# Altium schematic symbol library SPECTRE_ESP32-S3.SchLib: 29 symbols
Pins are listed as number, name and electrical type; pins without a type are passive.

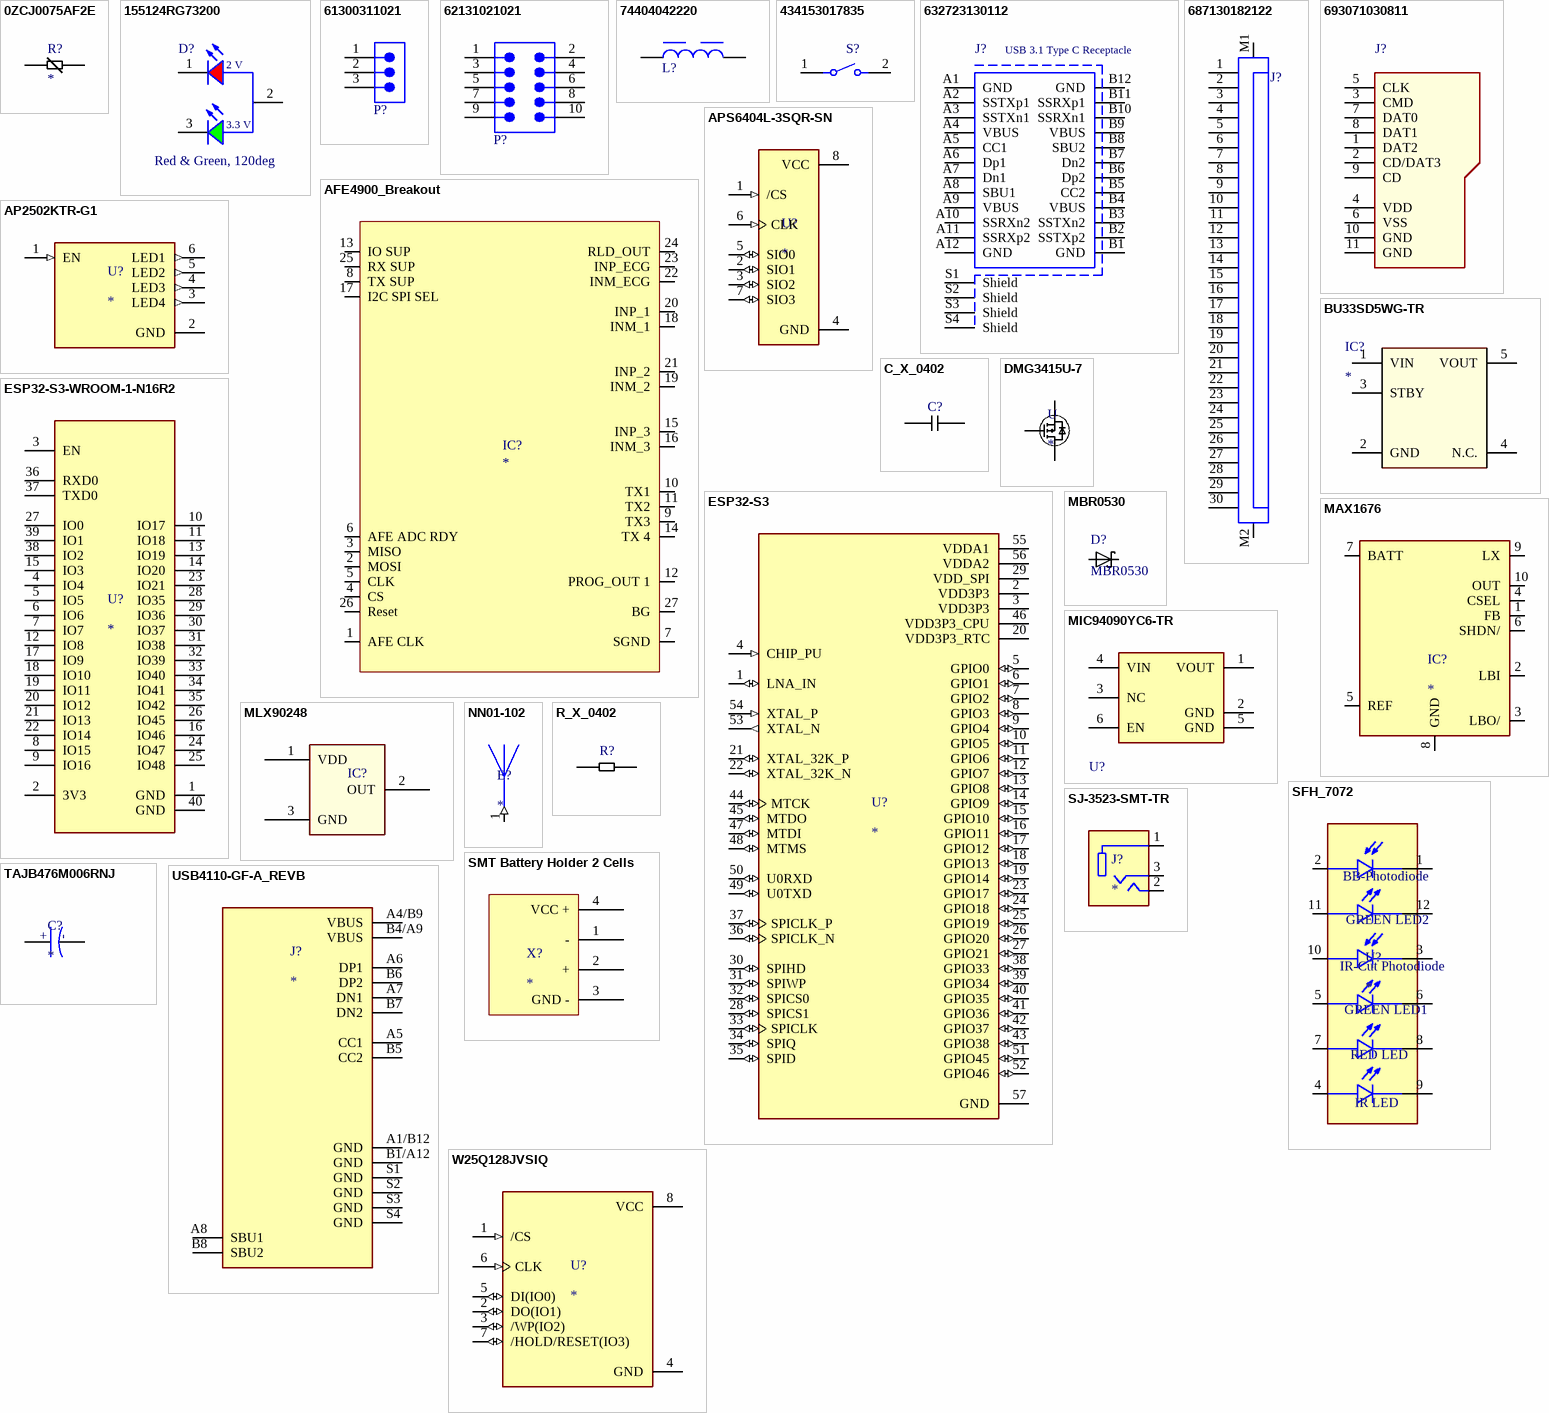
[diagram p0: symbols 0ZCJ0075AF2E to W25Q128JVSIQ]

## 0ZCJ0075AF2E
designator R?
1206 SMT PPTC | 0.75 Ih | 16V; MP: 0ZCJ0075AF2E; MF: Bel Fuse; Package: 1206 Bel Fuse; Value: *; Digi-Key_Part_Number: 507-1805-1-ND; SnapEDA_Link: https://www.snapeda.com/parts/0ZCJ0075AF2E/Bel%20Fuse%20Inc./view-part/1307706/?ref=snap
footprint RESC3216X125N
pins: 1 (power), 2 (power)

## 155124RG73200
designator D?, comment Red & Green, 120deg
WL-SBSW SMT Bi-color Side View Waterclear, size 1204, Red & Green, 120deg; Part Number: 155124RG73200; Luminous Intensity: 160mcd@Green, 60mcd@Red; Dominant Wavelength: 525nm@Green, 624nm@Red; Forward Voltage: 3.3V@Green, 2V@Red; Peak Wavelength: 520nm@Green, 632nm@Red; Chip Technology: AlInGaP + InGaN; ComponentLink1Description: Manufacturer; ComponentLink1URL: http://www.we-online.de; ComponentLink2Description: Datasheet; ComponentLink2URL: https://katalog.we-online.de/led/datasheet/155124RG73200.pdf; Emitting Color: Red & Green; Operating Temperature: -40 to +85degC; Mounting Technology: SMT; Packaging: Tape and Reel; Published Date: October 2019; Publisher: Wurth Elektronik; Size: 1204; Viewing Angle: 120deg
footprint WL-SBSW_1204 (SMD Bi-color Side view Waterclear, body 3.2x1mm)
pins: 1 K, 2 A, 3 K
text: 2 V; 3.3 V

## 61300311021
designator P?  (value not drawn)
WR-PHD Pin Header, THT, Angled, pitch 2.54mm, 1 Row, 3P; Manufacturer: Wurth Elektronik; Contact Resistance: 20mΩ; Rated Current: 3A; Working Voltage: 250V; Withstanding Voltage: 500V; ComponentLink1Description: Website Link; ComponentLink1URL: https://www.we-online.com/redexpert/article/61300311021?ad; ComponentLink2Description: Datasheet Link; ComponentLink2URL: https://www.we-online.com/redexpert/spec/61300311021?ad; Manufacturer Part Number: 61300311021; Category: Board-to-Board Connectors; Match Code: WR-PHD; Mount: Through Hole; Operating Temperature Max: 105°C; Operating Temperature Min: -40°C; Packaging: Bag; Gender: Pin Header; Number of Pins: 3; Number of Rows: 1; Orientation: Angled; Pitch: 2.54mm
footprint 61300311021 (Pin Header, pitch 2.54 mm, THT, Angled, single row, 3p)
pins: 1, 2, 3

## 62131021021
designator P?  (value not drawn)
WR-PHD Pin Header, SMT, Vertical, pitch 1.27mm, 2 Row, 10P; Manufacturer: Wurth Elektronik; Contact Resistance: 20mΩ; Rated Current: 1A; Working Voltage: 100V; Withstanding Voltage: 500V; ComponentLink1Description: Website Link; ComponentLink1URL: https://www.we-online.com/redexpert/article/62131021021?ad; ComponentLink2Description: Datasheet Link; ComponentLink2URL: https://www.we-online.com/redexpert/spec/62131021021?ad; Manufacturer Part Number: 62131021021; Category: Board-to-Board Connectors; Match Code: WR-PHD; Mount: Surface Mount; Operating Temperature Max: 105°C; Operating Temperature Min: -40°C; Packaging: Tape and Reel; Gender: Pin Header; Number of Pins: 10; Number of Rows: 2; Orientation: Vertical; Pitch: 1.27mm
footprint 62131021021 (Pin Header, pitch 1.27 mm, SMD, Vertical, dual row, 10p)
pins: 1, 2, 3, 4, 5, 6, 7, 8, 9, 10

## 74404042220
designator L?, comment 22µH, 0.7A  (value not drawn)
WE-LQS SMT Power Inductor, size 4018, 22µH, 0.7A, 0.29Ω; Manufacturer Part Number: 74404042220; Manufacturer: Wurth Elektronik; Case/Size Code: 4018; Saturation Current: 1.1A; Self Resonant Frequency: 23MHz; ComponentLink1Description: Website Link; ComponentLink1URL: https://www.we-online.com/redexpert/article/74404042220?ad; ComponentLink2Description: Datasheet Link; ComponentLink2URL: https://www.we-online.com/redexpert/spec/74404042220?ad; Category: Shielded Power Inductors; Match Code: WE-LQS; Mount: Surface Mount; Operating Temperature Max: 125°C; Operating Temperature Min: -40°C; Packaging: Tape and Reel; Length: 4mm; Width: 4mm; Height: 1.8mm; DC Resistance: 0.29Ω; Inductance: 22µH; Rated Current: 0.7A
footprint WE-LQS_4018 (SMD Power Inductor, 2-Leads, body 4x4mm)
pins: 1, 2

## 434153017835
designator S?
WS-TASV J-Bend SMT Tact Switch, 3.5x2.9x1.7mm, 350gf; Manufacturer Part Number: 434153017835; Manufacturer: Wurth Elektronik; Rated Voltage: 12VDC; Rated Current: 50mA; Washable: No; ComponentLink1Description: Manufacturer; ComponentLink1URL: http://www.we-online.de; ComponentLink2Description: Datasheet; ComponentLink2URL: https://www.we-online.com/catalog/datasheet/434153017835.pdf; Operating Temperature: -40 to +85degC; Published Date: November 2020; Contact Material: Stainless Steel; Size: 3.5x2.9x1.7mm; Mounting Technology: SMT; Contact Plating: Silver; Operation Force: 350gf; Packaging: Tape and Reel; Terminal Material: Copper Alloy; Terminal Plating: Silver
footprint 434153017835 (Tact Switch, SMD, body 3.5x2.9mm)
pins: 1, 2

## 632723130112
designator J?, comment USB 3.1 Type C Receptacle
USB 3.1 Type C, Receptacle, Horizontal, THR; Part Number: 632723130112; Rated Current: 5A; Pin Number: 24; Interface Type: Type C; Working Voltage: 20VAC; ComponentLink1Description: Manufacturer; ComponentLink1URL: http://www.we-online.de; ComponentLink2Description: Datasheet; ComponentLink2URL: https://katalog.we-online.com/em/datasheet/632723130112.pdf; Published Date: September 2019; Publisher: Wurth Elektronik; Gender: Receptacle; Type: Horizontal; Packaging: Tape and Reel; Operating Temperature: -40 to +85degC; Mounting Technology: THR; Application: USB 3.1
footprint 632723130112
pins: A1 GND, A2 SSTXp1, A3 SSTXn1, A4 VBUS, A5 CC1, A6 Dp1, A7 Dn1, A8 SBU1, A9 VBUS, A10 SSRXn2, A11 SSRXp2, A12 GND, B1 GND, B2 SSTXp2, B3 SSTXn2, B4 VBUS, B5 CC2, B6 Dp2, B7 Dn2, B8 SBU2, B9 VBUS, B10 SSRXn1, B11 SSRXp1, B12 GND, S1 Shield, S2 Shield, S3 Shield, S4 Shield

## 687130182122
designator J?  (value not drawn)
WR-FPC SMT ZIF Horizontal Dual Contact, pitch 0.5mm, Horizontal, 30pins; Manufacturer: Wurth Elektronik; Contact Resistance: 30mΩ; Rated Current: 0.5A; Working Voltage: 50VAC; ComponentLink1Description: Website Link; ComponentLink1URL: https://www.we-online.com/redexpert/article/687130182122?ad; ComponentLink2Description: Datasheet Link; ComponentLink2URL: https://www.we-online.com/redexpert/spec/687130182122?ad; Manufacturer Part Number: 687130182122; Category: FPC Connectors; Match Code: WR-FPC; Mount: Surface Mount; Operating Temperature Max: 85°C; Operating Temperature Min: -55°C; Packaging: Tape and Reel; Length: 17mm; Width: 3.7mm; Height: 0.96mm; Number of Pins: 30; Orientation: Horizontal; Pitch: 0.5mm
footprint 687130182122 (ZIF Connectors, Horizontal, Dual Contact Back Locking, pitch 0.5mm, 30p)
pins: 1, 2, 3, 4, 5, 6, 7, 8, 9, 10, 11, 12, 13, 14, 15, 16, 17, 18, 19, 20, 21, 22, 23, 24, 25, 26, 27, 28, 29, 30, M1, M2

## 693071030811
designator J?
WR-CRD Micro SD Card Connector Push & Push; Part Number: 693071030811; Contact Resistance: 100mOhm; Gender: Socket; Pin Number: 8; Working Voltage: 30VAC; Withstanding Voltage: 500VAC; Rated Current: 0.5A; ComponentLink1Description: Manufacturer; ComponentLink1URL: http://www.we-online.de; ComponentLink2Description: Datasheet; ComponentLink2URL: https://katalog.we-online.com/em/datasheet/693071030811.pdf; Packaging: Tape and Reel; Published Date: November 2019; Publisher: Wurth Elektronik; Mounting Technology: SMT; Operating Temperature: -25 to +85degC; Type: Push & Push
footprint 693071030811 (Micro SD Card Connector)
pins: 1 DAT2, 2 CD/DAT3, 3 CMD, 4 VDD, 5 CLK, 6 VSS, 7 DAT0, 8 DAT1, 9 CD, 10 GND, 11 GND

## AFE4900_Breakout
designator IC?
footprint AFE4900_Breakout; pin to pad 1>F1 2>F2 3>E2 4>E3 5>F3 6>F4 7>D5 8>F5 9>E4 10>D4 11>E5 12>D3 13>C4 14>C5 15>B5 16>A5 17>A4 18>A3 19>B3 20>A2 21>B2 22>A1 23>B1 24>C2 25>C1 26>E1 27>D2
pins: 1 AFE CLK, 2 MOSI, 3 MISO, 4 CS, 5 CLK, 6 AFE ADC RDY, 7 SGND, 8 TX SUP, 9 TX3, 10 TX1, 11 TX2, 12 PROG_OUT 1, 13 IO SUP, 14 TX 4, 15 INP_3, 16 INM_3, 17 I2C SPI SEL, 18 INM_1, 19 INM_2, 20 INP_1, 21 INP_2, 22 INM_ECG, 23 INP_ECG, 24 RLD_OUT, 25 RX SUP, 26 Reset, 27 BG

## AP2502KTR-G1
designator U?
LED Driver IC 4 Output Linear - PWM Dimming 20mA SOT-23-6; MP: AP2502KTR-G1; MF: Diodes Inc.; Value: *; Availability: In Stock; Package: SOT-23-6 Diodes Inc.; Purchase-URL: https://pricing.snapeda.com/search/part/AP2502KTR-G1/?ref=eda; Check_prices: https://www.snapeda.com/parts/AP2502KTR-G1/Diodes+Inc./view-part/?ref=eda; Price: None; SnapEDA_Link: https://www.snapeda.com/parts/AP2502KTR-G1/Diodes+Inc./view-part/?ref=snap
footprint SOT95P280X145-6N
pins: 1 EN (in), 2 GND (power), 3 LED4 (out), 4 LED3 (out), 5 LED2 (out), 6 LED1 (out)

## APS6404L-3SQR-SN
designator U?
FLASH - NOR Memory IC 128Mb (16M x 8) SPI - Quad I/O, QPI, DTR 133 MHz 8-SOIC; MF: Winbond Electronics; MP: W25Q128JVSIQ; Price: None; Purchase-URL: https://pricing.snapeda.com/search/part/W25Q128JVSIQ/?ref=eda; Check_prices: https://www.snapeda.com/parts/W25Q128JVSIQ/Winbond+Electronics/view-part/?ref=eda; Value: *; Package: SOIC-8 Winbond; SnapEDA_Link: https://www.snapeda.com/parts/W25Q128JVSIQ/Winbond+Electronics/view-part/?ref=snap; Availability: In Stock
footprint SOIC127P790X216-8N
pins: 1 /CS (in), 2 SIO1 (io), 3 SIO2 (io), 4 GND (power), 5 SIO0 (io), 6 CLK (in), 7 SIO3 (io), 8 VCC (power)

## BU33SD5WG-TR
designator IC?
Linear Voltage Regulator IC Positive Fixed 1 Output 500mA 5-SSOP; MF: Rohm; MP: BU33SD5WG-TR; Check_prices: https://www.snapeda.com/parts/BU33SD5WG-TR/Rohm/view-part/?ref=eda; Value: *; SnapEDA_Link: https://www.snapeda.com/parts/BU33SD5WG-TR/Rohm/view-part/?ref=snap; Price: None; Availability: In Stock; Package: SSOP-5 Rohm; Purchase-URL: https://pricing.snapeda.com/search/part/BU33SD5WG-TR/?ref=eda
footprint SOT95P280X125-5N
pins: 1 VIN, 2 GND, 3 STBY, 4 N.C., 5 VOUT

## C_X_0402
designator C?
footprint C_0402
pins: 1 (power), 2 (power)

## DMG3415U-7
designator U
P-Channel 20V 4A _Ta_ 900mW _Ta_ Surface Mount SOT-23-3; MF: Diodes Inc.; MP: DMG3415U-7; Package: SOT-23-3 Diodes Inc.; DigiKey-Purchase-URL: https://snapeda.com/shop?store=DigiKey&id=82858; Availability: Unavailable; Value: *; Price: None; SnapEDA_Link: https://www.snapeda.com/parts/DMG3415U-7/Diodes%20Inc./view-part/82858/?ref=snap
footprint SOT95P240X105-3N
pins: 1 G (power), 2 S (power), 3 D (power)

## ESP32-S3
designator U?
IC RF TxRx + MCU Bluetooth, WiFi 802.11b/g/n, Bluetooth v5.0 2.412GHz ~ 2.484GHz 56-VFQFN Exposed Pad; MF: Espressif Systems; MP: ESP32-S3; Package: None; Check_prices: https://www.snapeda.com/parts/ESP32-S3/Espressif+Systems/view-part/?ref=eda; Availability: In Stock; Value: *; Purchase-URL: https://pricing.snapeda.com/search/part/ESP32-S3/?ref=eda; Price: None; SnapEDA_Link: https://www.snapeda.com/parts/ESP32-S3/Espressif+Systems/view-part/?ref=snap
footprint IC_ESP32-S3
pins: 1 LNA_IN (io), 2 VDD3P3 (power), 3 VDD3P3 (power), 4 CHIP_PU (in), 5 GPIO0 (io), 6 GPIO1 (io), 7 GPIO2 (io), 8 GPIO3 (io), 9 GPIO4 (io), 10 GPIO5 (io), 11 GPIO6 (io), 12 GPIO7 (io), 13 GPIO8 (io), 14 GPIO9 (io), 15 GPIO10 (io), 16 GPIO11 (io), 17 GPIO12 (io), 18 GPIO13 (io), 19 GPIO14 (io), 20 VDD3P3_RTC (power), 21 XTAL_32K_P (io), 22 XTAL_32K_N (io), 23 GPIO17 (io), 24 GPIO18 (io), 25 GPIO19 (io), 26 GPIO20 (io), 27 GPIO21 (io), 28 SPICS1 (io), 29 VDD_SPI (power), 30 SPIHD (io), 31 SPIWP (io), 32 SPICS0 (io), 33 SPICLK (io), 34 SPIQ (io), 35 SPID (io), 36 SPICLK_N (io), 37 SPICLK_P (io), 38 GPIO33 (io), 39 GPIO34 (io), 40 GPIO35 (io), 41 GPIO36 (io), 42 GPIO37 (io), 43 GPIO38 (io), 44 MTCK (io), 45 MTDO (io), 46 VDD3P3_CPU (power), 47 MTDI (io), 48 MTMS (io), 49 U0TXD (io), 50 U0RXD (io), 51 GPIO45 (io), 52 GPIO46 (io), 53 XTAL_N (out), 54 XTAL_P (in), 55 VDDA1 (power), 56 VDDA2 (power), 57 GND (power)

## ESP32-S3-WROOM-1-N16R2
designator U?
Bluetooth, WiFi 802.11b/g/n, Bluetooth v5.0 Transceiver Module 2.4GHz PCB Trace Surface Mount; MP: ESP32-S3-WROOM-1-N16R2; MF: Espressif Systems; Package: None; Availability: In Stock; SnapEDA_Link: https://www.snapeda.com/parts/ESP32-S3-WROOM-1-N16R2/Espressif+Systems/view-part/?ref=snap; Value: *; Purchase-URL: https://pricing.snapeda.com/search/part/ESP32-S3-WROOM-1-N16R2/?ref=eda; Price: None; Check_prices: https://www.snapeda.com/parts/ESP32-S3-WROOM-1-N16R2/Espressif+Systems/view-part/?ref=eda
footprint XCVR_ESP32-S3-WROOM-1-N16R2
pins: 1 GND (power), 2 3V3 (power), 3 EN, 4 IO4, 5 IO5, 6 IO6, 7 IO7, 8 IO15, 9 IO16, 10 IO17, 11 IO18, 12 IO8, 13 IO19, 14 IO20, 15 IO3, 16 IO46, 17 IO9, 18 IO10, 19 IO11, 20 IO12, 21 IO13, 22 IO14, 23 IO21, 24 IO47, 25 IO48, 26 IO45, 27 IO0, 28 IO35, 29 IO36, 30 IO37, 31 IO38, 32 IO39, 33 IO40, 34 IO41, 35 IO42, 36 RXD0, 37 TXD0, 38 IO2, 39 IO1, 40 GND (power)

## MAX1676
designator IC?
Boost Switching Regulator IC Positive Adjustable (Programmable) 2V (3.3V, 5V) 1 Output 360mA (Switch), 750mA (Switch) 10-TFSOP, 10-MSOP (0.118, 3.00mm Width); MP: MAX1676; MF: Maxim Integrated; Value: *; Availability: Unavailable; Package: None; SnapEDA_Link: https://www.snapeda.com/parts/MAX1676/Maxim%20Integrated/view-part/574462/?ref=snap; Price: None; Check_prices: https://www.snapeda.com/parts/MAX1676/Maxim%20Integrated/view-part/574462/?ref=eda
footprint UMAX10
pins: 1 FB, 2 LBI, 3 LBO/, 4 CSEL, 5 REF, 6 SHDN/, 7 BATT, 8 GND (power), 9 LX, 10 OUT

## MBR0530
designator D?
SnapEDA_Link: https://www.snapeda.com/parts/MBR0530/ON%20Semiconductor/view-part/2580921/?ref=snap; Value: *
footprint MBR0530
pins: A, C

## MIC94090YC6-TR
designator U?  (value not drawn)
footprint Microchip_SC70-6LD-PL-1_IPC_C
pins: 1 VOUT (power), 2 GND (power), 3 NC, 4 VIN (power), 5 GND (power), 6 EN

## MLX90248
designator IC?
footprint SOT95P240X105-3N
pins: 1 VDD, 2 OUT, 3 GND

## NN01-102
designator E?
2.45GHz Bluetooth, WLAN, Zigbeeâ„¢ Chip RF Antenna 2.4GHz ~ 2.5GHz 1.7dBi Solder Surface Mount; MP: NN01-102; MF: Ignion; Price: None; Availability: In Stock; Check_prices: https://www.snapeda.com/parts/NN01-102/Ignion/view-part/5139104/?ref=eda; Value: *; Package: None; SnapEDA_Link: https://www.snapeda.com/parts/NN01-102/Ignion/view-part/5139104/?ref=snap
footprint XCVR_NN01-102
pins: 1 (in)

## R_X_0402
designator R?
footprint R_0402
pins: 1 (power), 2 (power)

## SFH_7072
designator U?
Reflective Optical Sensor 6-SMD, No Lead; MF: OSRAM Opto; Price: None; Availability: Unavailable; Value: *; MP: SFH 7072; SnapEDA_Link: https://www.snapeda.com/parts/SFH%207072/OSRAM%20Opto%20Semiconductors%20Inc./view-part/2464223/?ref=snap; Package: SMD-6 Osram Opto
footprint XDCR_SFH_7072
pins: 1 BPC, 2 BPA, 3 IPC, 4 IA, 5 G1A, 6 G1C, 7 RA, 8 RC, 9 IC, 10 IPA, 11 G2A, 12 G2C
text: BB-Photodiode; GREEN LED2; IR-Cut Photodiode; GREEN LED1; RED LED; IR LED

## SJ-3523-SMT-TR
designator J?
<b>Audio Jack Connector</b> 3.5 mm Low Profile Surface Mount Stereo Jack, 3 Pin Right-Angle; MP: SJ-3523-SMT-TR; Package: None; Value: *; Availability: Unavailable; Price: None
footprint CUI_SJ-3523-SMT-TR
pins: 1, 2, 3

## SMT Battery Holder 2 Cells
designator X?
SMT Battery Holder, Keystone Electronics, 2 Cells AAA; Cart: https://www.digikey.de/product-detail/de/keystone-electronics/1022/36-1022-ND/2137859; Datasheet: https://www.keyelco.com/userAssets/file/M65p23.pdf
footprint SMT Battery Holder (SMT Battery Holder, Zylindrisch, 2 Cells AAA)
pins: 1 -, 2 +, 3 GND -, 4 VCC +

## TAJB476M006RNJ
designator C?
100ÂµF Molded Tantalum Capacitors 6.3V 1411 _3528 Metric_, 1210 1.7Ohm; MF: AVX Interconnect / Elco; MP: TAJB107M006RNJ; Value: *; Package: 1210 AVX Interconnect / Elco; SnapEDA_Link: https://www.snapeda.com/parts/TAJB107M006RNJ/AVX%20Interconnect%20/%20Elco/view-part/105606/?ref=snap; Price: None; Availability: Unavailable
footprint TANTAL_1210
pins: NEG, POS
text: +; -

## USB4110-GF-A_REVB
designator J?
MP: USB4110-GF-A_REVB; Value: *; Availability: Unavailable; Price: None; Package: None
footprint GCT_USB4110-GF-A_REVB
pins: A1/B12 GND (power), A4/B9 VBUS (power), A5 CC1, A6 DP1, A7 DN1, A8 SBU1, B1/A12 GND (power), B4/A9 VBUS (power), B5 CC2, B6 DP2, B7 DN2, B8 SBU2, S1 GND (power), S2 GND (power), S3 GND (power), S4 GND (power)

## W25Q128JVSIQ
designator U?
FLASH - NOR Memory IC 128Mb (16M x 8) SPI - Quad I/O, QPI, DTR 133 MHz 8-SOIC; MF: Winbond Electronics; MP: W25Q128JVSIQ; Price: None; Purchase-URL: https://pricing.snapeda.com/search/part/W25Q128JVSIQ/?ref=eda; Check_prices: https://www.snapeda.com/parts/W25Q128JVSIQ/Winbond+Electronics/view-part/?ref=eda; Value: *; Package: SOIC-8 Winbond; SnapEDA_Link: https://www.snapeda.com/parts/W25Q128JVSIQ/Winbond+Electronics/view-part/?ref=snap; Availability: In Stock
footprint SOIC127P790X216-8N
pins: 1 /CS (in), 2 DO(IO1) (io), 3 /WP(IO2) (io), 4 GND (power), 5 DI(IO0) (io), 6 CLK (in), 7 /HOLD/RESET(IO3) (io), 8 VCC (power)